# Altium footprint library Motor_Driver_Model_D203.PcbLib: 30 footprints (part 1 of 2)
Each footprint in its own frame and in the unit in brackets; x right, y up, seen from the top. Pads: shape width x height; smd on the part's side, far side on the other; paste and mask are expansions set on the pad; w line width, h text height; cw(c..) or ccw(c..) is an arc to the next point about the centre after c.
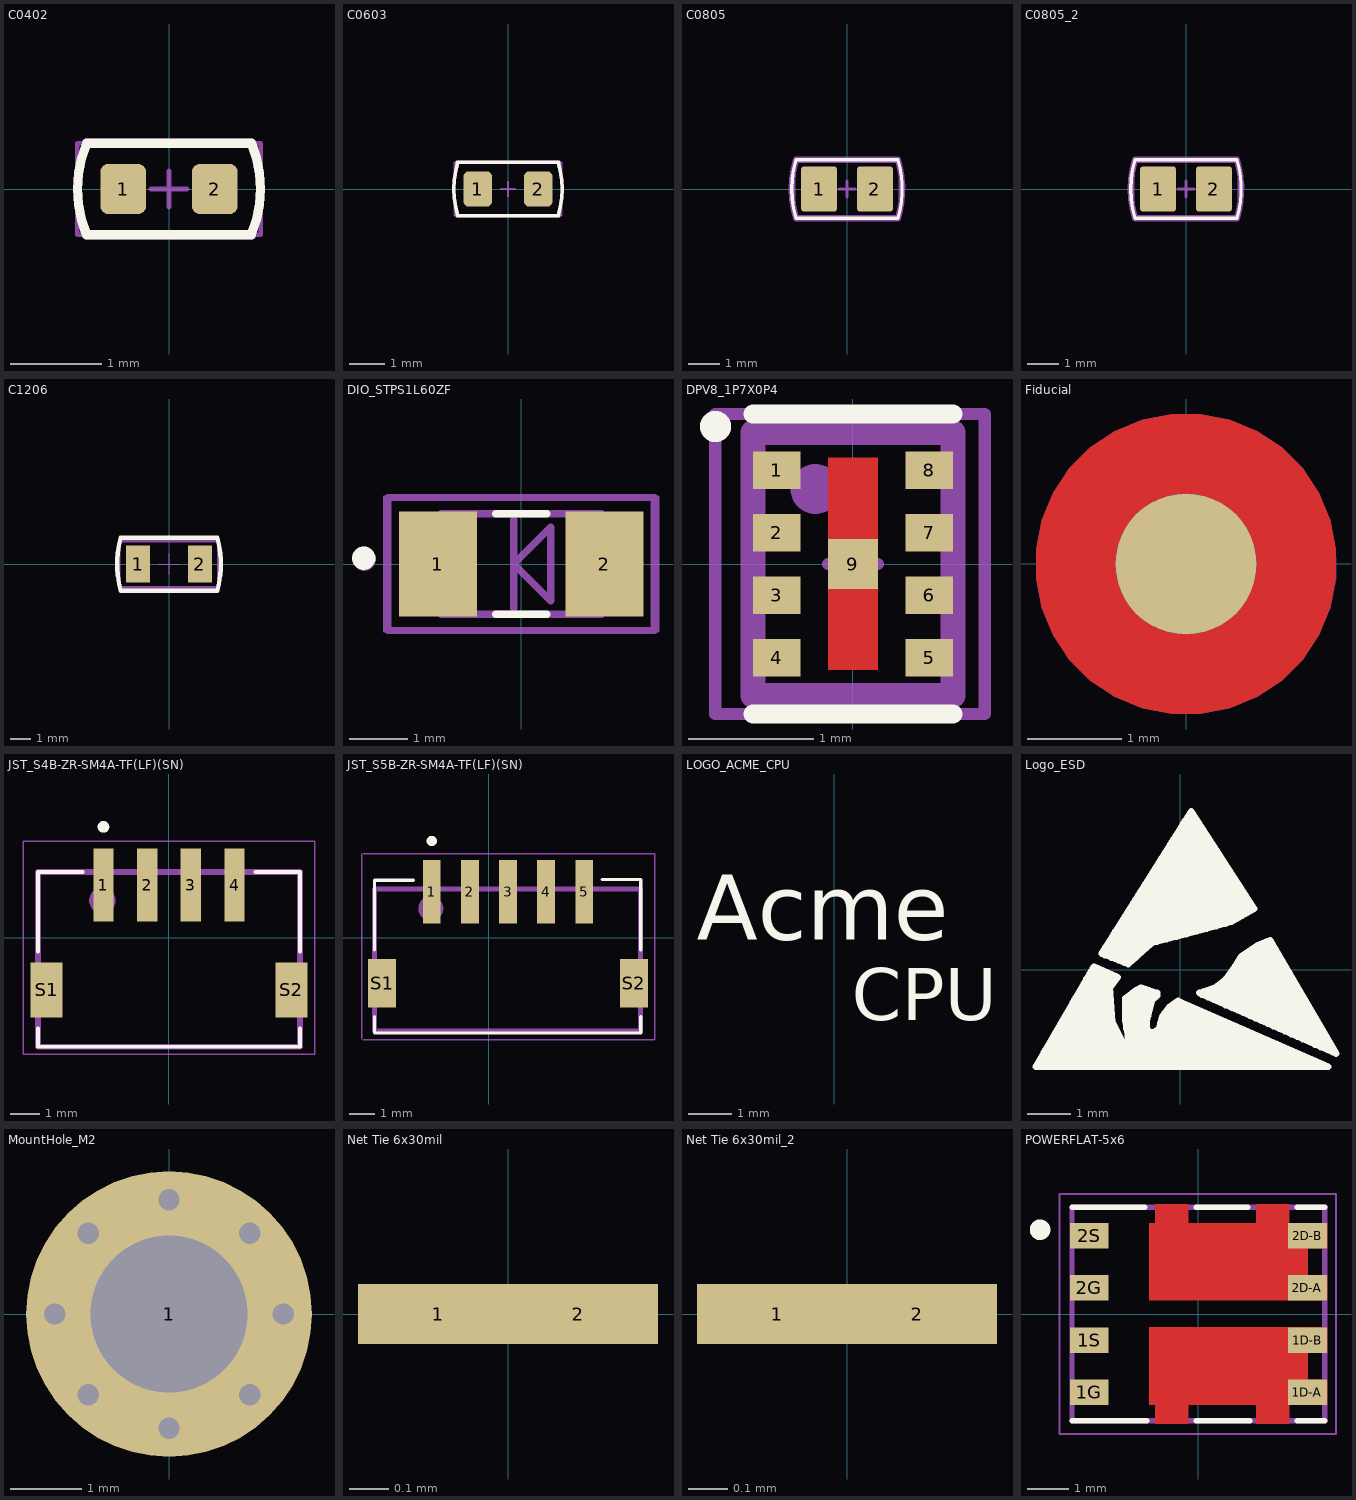
[diagram p0: the footprints below, top view; thin cyan lines are the x and y axes]

## C0402 [mm]
pads (2):
  rrect35% 0.5x0.55 smd: 1(-0.5,0) 2(0.5,0)
Top Overlay:
  lines w0.1: -0.901,-0.501 cw(c0.319,-0.004) -0.898,0.5 ; -0.9,-0.5 0.9,-0.5 ; -0.9,0.5 0.9,0.5 ; 0.898,-0.5 ccw(c-0.319,0.004) 0.901,0.501
Top ASSY:
  lines w0.1: -0.901,-0.501 cw(c0.319,-0.004) -0.898,0.5 ; -0.9,-0.5 0.9,-0.5 ; -0.9,0.5 0.9,0.5 ; 0.898,-0.5 ccw(c-0.319,0.004) 0.901,0.501
  text ".Designator" at -4.132,-0.067 h0.8
Mechanical 15:
  lines w0.05: -1,-0.5 -1,0.5 1,0.5 1,-0.5 -1,-0.5
  lines w0.051: -0.2,0 0.2,0 ; 0,-0.2 0,0.2
3D body "C0402C104Z4VACTU.step": height 0.55, standoff 0, extent -0.525,-0.275 0.525,0.275

## C0603 [mm]
pads (2):
  rrect35% 0.8x0.991 smd: 1(-0.85,0) 2(0.85,0)
Top Overlay:
  lines w0.1: -1.416,-0.75 cw(c1.346,0) -1.416,0.75 1.416,0.75 cw(c-1.346,0) 1.416,-0.75 -1.416,-0.75
Top ASSY:
  lines w0.1: -1.416,-0.75 cw(c1.346,0) -1.416,0.75 1.416,0.75 cw(c-1.346,0) 1.416,-0.75 -1.416,-0.75
  text ".Designator" at 4.142,0.121 h0.8
Mechanical 15:
  lines w0.05: -1.5,-0.75 -1.5,0.75 1.5,0.75 1.5,-0.75 -1.5,-0.75
  lines w0.051: -0.2,0 0.2,0 ; 0,-0.2 0,0.2
3D body "C0603C103M5RACTU.step": height 0.87, standoff 0, extent -0.875,-0.475 0.875,0.475

## C0805 [mm]
pads (2):
  rrect15% 1.15x1.45 smd: 1(-0.9,0) 2(0.9,0)
Top Overlay:
  lines w0.1: -1.64,-0.94 1.638,-0.94 ; -1.64,-0.937 cw(c1.524,0) -1.64,0.938 ; -1.64,0.94 1.64,0.94 ; 1.638,-0.945 ccw(c-1.524,0) 1.64,0.938
Top ASSY:
  lines w0.2: -1.64,-0.94 1.638,-0.94 ; -1.64,-0.937 cw(c1.524,0) -1.64,0.938 ; -1.64,0.94 1.64,0.94 ; 1.638,-0.945 ccw(c-1.524,0) 1.64,0.938
  text ".Designator" at -4.094,-0.121 h0.8
Mechanical 15:
  lines w0.1: -0.25,0 0.25,0 ; 0,-0.25 0,0.25 ; -1.7,-0.889 1.7,-0.889 1.7,0.889 -1.7,0.889 -1.7,-0.889
3D body "C0805C101JAGACTU.step": height 0.88, standoff 0, extent -1.1,-0.725 1.1,0.725

## C0805_2 [mm]
pads (2):
  rrect15% 1.15x1.45 smd: 1(-0.9,0) 2(0.9,0)
Top Overlay:
  lines w0.1: -1.64,-0.94 1.638,-0.94 ; -1.64,-0.937 cw(c1.524,0) -1.64,0.938 ; -1.64,0.94 1.64,0.94 ; 1.638,-0.945 ccw(c-1.524,0) 1.64,0.938
Top ASSY:
  lines w0.2: -1.64,-0.94 1.638,-0.94 ; -1.64,-0.937 cw(c1.524,0) -1.64,0.938 ; -1.64,0.94 1.64,0.94 ; 1.638,-0.945 ccw(c-1.524,0) 1.64,0.938
  text ".Designator" at -3.761,-0.121 h0.8
Mechanical 15:
  lines w0.1: -0.25,0 0.25,0 ; 0,-0.25 0,0.25 ; -1.7,-0.889 1.7,-0.889 1.7,0.889 -1.7,0.889 -1.7,-0.889
3D body "C0805C101JAGACTU.step": height 0.88, standoff 0, extent -1.1,-0.725 1.1,0.725

## C1206 [mm]
pads (2):
  rect 1.15x1.8 smd: 1(-1.5,0) 2(1.5,0)
Top Overlay:
  lines w0.2: -2.345,1.262 ccw(c2.375,0) -2.338,-1.285 ; -2.345,1.27 2.345,1.27 ; -2.338,-1.295 2.338,-1.295 ; 2.338,-1.285 ccw(c-2.375,0) 2.345,1.262
Top ASSY:
  lines w0.2: -2.375,-1.168 2.375,-1.168 ; -2.369,-1.167 cw(c2.375,0) -2.375,1.143 2.375,1.143 cw(c-2.375,0) 2.369,-1.167
  text ".Designator" at -4.332,-0.067 h0.8
Mechanical 15:
  lines w0.05: -0.5,0 0.5,0 ; 0,-0.5 0,0.5 ; -2.35,-1.15 -2.35,1.15 2.35,1.15 2.35,-1.15 -2.35,-1.15
3D body "C1206C102KGRACAUTO.step": height 1.75, standoff 0, extent -1.7,-0.889 1.7,0.911

## DIO_STPS1L60ZF [mm]
pads (2):
  rect 1.34x1.8 smd: 1(-1.43,0) 2(1.43,0)
Top Overlay:
  circle w0.2: c-2.7,0.1 r0.1
  lines w0.127: -0.44,-0.863 0.44,-0.863 ; -0.44,0.863 0.44,0.863
3D:
  circle w0.2: c-2.7,0.1 r0.1
  lines w0.127: -1.375,-0.863 1.375,-0.863 1.375,0.863 -1.375,0.863 -1.375,-0.863
Top ASSY:
  circle w0.2: c-2.694,0.083 r0.1
  lines w0.125: -0.127,-0.762 -0.127,0.762 ; -2.286,-1.143 2.286,-1.143 2.286,1.143 -2.286,1.143 -2.286,-1.143 ; -0.127,0 0.508,0.635 0.508,-0.635 -0.127,0
  text ".Designator" at -4.251,-0.384 h0.8
Mechanical 15:
  lines w0.05: -2.35,-1.15 -2.35,1.15 2.35,1.15 2.35,-1.15 -2.35,-1.15
3D body "BZT52H-B30,115.STEP": height 1.2, standoff 0, extent -1.75,-0.8 1.75,0.8

## DPV8_1P7X0P4 [mm]
pads (9):
  rect 0.38x0.3 smd paste+0 mask+0.05: 1(-0.61,0.75) 2(-0.61,0.25) 3(-0.61,-0.25) 4(-0.61,-0.75) 5(0.61,-0.75) 6(0.61,-0.25) 7(0.61,0.25) 8(0.61,0.75)
  rect 0.4x0.4 smd paste-0.837 mask+0.05: 9(0,0)
Top Layer:
  rectangle: -0.2,-0.85 0.2,0.85
Top Overlay:
  circle w0.15: c-1.1,1.1 r0.05
  lines w0.152: -0.8,-1.2 0.8,-1.2 ; -0.8,1.2 0.8,1.2
Top Paste:
  region: 0.2,0.85 -0.2,0.85 -0.2,-0.85 0.2,-0.85
Top Solder:
  rectangle: -0.25,-0.9 0.25,0.9
Top ASSY:
  circle w0.2: c-0.3,0.6 r0.1
  lines w0.2: -0.8,-1.05 0.8,-1.05 0.8,1.05 -0.8,1.05 -0.8,-1.05
  text "'.Designator'" at 0.441,-4.627 h0.8
Mechanical 15:
  lines w0.1: -0.2,0 0.2,0 ; 0,-0.2 0,0.2 ; -1.1,-1.2 -1.1,1.2 1.054,1.2 1.054,-1.2 -1.1,-1.2
3D body "DPV8_1P7X0P4.step": height 0.65, standoff 0, extent -0.8,-1.05 0.8,1.05

## Fiducial [mm]
pads (2):
  round 1.5 smd paste+0 mask+0.75: ""(0,0)
  round 1.5 smd far side paste+0 mask+0.75: ""(0,0)
Top Layer:
  pour cut-out: 0,1.6 0.158,1.6 0.467,1.538 0.758,1.418 1.02,1.243 1.243,1.02 1.418,0.758 1.538,0.467 1.6,0.158 1.6,0 1.6,-0.158 1.538,-0.467 1.418,-0.758 1.243,-1.02 1.02,-1.243 0.758,-1.418 0.467,-1.539 0.158,-1.6 0,-1.6 -0.158,-1.6 -0.467,-1.538 -0.758,-1.418 -1.02,-1.243 -1.243,-1.02 -1.418,-0.758 -1.538,-0.467 -1.6,-0.158 -1.6,0 -1.6,0.158 -1.538,0.467 -1.418,0.758 -1.243,1.02 -1.02,1.243 -0.758,1.418 -0.467,1.538 -0.158,1.6
Bottom Layer:
  pour cut-out: 0,1.6 0.158,1.6 0.467,1.538 0.758,1.418 1.02,1.243 1.243,1.02 1.418,0.758 1.538,0.467 1.6,0.158 1.6,0 1.6,-0.158 1.538,-0.467 1.418,-0.758 1.243,-1.02 1.02,-1.243 0.758,-1.418 0.467,-1.539 0.158,-1.6 0,-1.6 -0.158,-1.6 -0.467,-1.538 -0.758,-1.418 -1.02,-1.243 -1.243,-1.02 -1.418,-0.758 -1.538,-0.467 -1.6,-0.158 -1.6,0 -1.6,0.158 -1.538,0.467 -1.418,0.758 -1.243,1.02 -1.02,1.243 -0.758,1.418 -0.467,1.538 -0.158,1.6
Mechanical 9:
  lines w0.2: -0.635,0 0.635,0 ; 0,-0.635 0,0.635
3D body: height -0.19, standoff -0.2, extent -1.488,-1.497 1.5,1.497

## JST_S4B-ZR-SM4A-TF(LF)(SN) [mm]
pads (6):
  rect 0.7x2.5 smd: 1(-2.25,1.8) 2(-0.75,1.8) 3(0.75,1.8) 4(2.25,1.8)
  rect 1.1x1.9 smd: S1(-4.2,-1.8) S2(4.2,-1.8)
Top Overlay:
  circle w0.2: c-2.25,3.8 r0.1
  lines w0.127: -4.5,-3.11 -4.5,-3.75 4.5,-3.75 4.5,-3.11 ; -4.5,-0.49 -4.5,2.25 -2.97,2.25 ; 2.97,2.25 4.5,2.25 4.5,-0.49
Top ASSY:
  circle w0.4: c-2.286,1.27 r0.254
  lines w0.2: -4.5,-3.75 -4.5,2.25 4.5,2.25 4.5,-3.75 -4.5,-3.75
  text ".Designator" at -3.713,-1.899 h0.8
  text "1" at -2.54,-0.381 h1
  text "2" at -1.017,-0.381 h1
  text "3" at 0.508,-0.37 h1
  text "4" at 1.905,-0.381 h1
Mechanical 15:
  lines w0.05: -5,-4 5,-4 5,3.3 -5,3.3 -5,-4
3D body "S4B-ZR-SM4A-TF.STEP": height 3.7, standoff 0, extent -4.445,-3.631 4.555,2.869

## JST_S5B-ZR-SM4A-TF(LF)(SN) [mm]
pads (7):
  rect 0.7x2.5 smd: 1(-2.25,1.8) 2(-0.75,1.8) 3(0.75,1.8) 4(2.25,1.8) 5(3.75,1.8)
  rect 1.1x1.9 smd: S1(-4.2,-1.8) S2(5.7,-1.8)
Top Overlay:
  circle w0.2: c-2.25,3.8 r0.1
  lines w0.127: -4.5,-3.11 -4.5,-3.75 5.969,-3.75 5.969,-3.11 ; -4.5,-0.49 -4.5,2.25 -2.97,2.25 ; 4.445,2.286 5.975,2.286 ; 5.969,-0.49 5.969,2.25
3D:
  circle w0.2: c-2.25,3.8 r0.1
Top ASSY:
  circle w0.4: c-2.286,1.143 r0.29
  lines w0.2: -4.5,-3.683 -4.5,1.905 5.969,1.905 5.969,-3.683 -4.5,-3.683
  text "1" at -2.522,-0.38 h1
  text "2" at -0.999,-0.38 h1
  text "3" at 0.526,-0.369 h1
  text "4" at 1.923,-0.38 h1
  text "5" at 3.447,-0.369 h1
  text ".Designator" at -1.755,-1.842 h0.5
Mechanical 15:
  lines w0.05: -5,-4 -5,3.3 ; -4.95,-4.013 6.527,-4.013 6.527,-2.807 6.527,0.747 ; -4.95,3.287 6.527,3.287 6.527,0.747 ; 6.527,-0.854 6.527,0.747
3D body "S5B-ZR-SM4A-TF.STEP": height 3.7, standoff 0, extent -4.488,-3.714 6.012,2.786

## LOGO_ACME_CPU [mm]
Top Overlay:
  text "Acme" at -3.149,16.2 h1.5
  text "CPU" at 0.401,14.35 h1.2

## Logo_ESD [mm]
Top Overlay:
  drawing of 211 lines, arcs and shapes, not listed

## MountHole_M2 [mm] "Mount Hole M2"
height 0.025
pads (1):
  round 4 hole 2.2 paste-2 mask-2: 1(0,0)
via -1.131,1.131 diameter 0.605 hole 0.3
via 1.131,1.131 diameter 0.605 hole 0.3
via 1.131,-1.131 diameter 0.605 hole 0.3
via -1.131,-1.131 diameter 0.605 hole 0.3
via -1.6,0 diameter 0.605 hole 0.3
via 0,-1.6 diameter 0.605 hole 0.3
via 1.6,0 diameter 0.605 hole 0.3
via 0,1.6 diameter 0.605 hole 0.3
Top Solder:
  region: 0,2.1 0.207,2.1 0.613,2.019 0.995,1.861 1.339,1.631 1.631,1.339 1.861,0.995 2.019,0.613 2.1,0.207 2.1,0 2.1,-0.207 2.019,-0.613 1.861,-0.995 1.631,-1.339 1.339,-1.631 0.995,-1.861 0.613,-2.019 0.207,-2.1 0,-2.1 -0.207,-2.1 -0.612,-2.019 -0.995,-1.861 -1.339,-1.631 -1.631,-1.339 -1.861,-0.995 -2.019,-0.613 -2.1,-0.207 -2.1,0 -2.1,0.207 -2.019,0.613 -1.861,0.995 -1.631,1.339 -1.339,1.631 -0.995,1.861 -0.613,2.019 -0.207,2.1
Bottom Solder:
  region: 0,2.1 0.207,2.1 0.613,2.019 0.995,1.861 1.339,1.631 1.631,1.339 1.861,0.995 2.019,0.613 2.1,0.207 2.1,0 2.1,-0.207 2.019,-0.613 1.861,-0.995 1.631,-1.339 1.339,-1.631 0.995,-1.861 0.613,-2.019 0.207,-2.1 0,-2.1 -0.207,-2.1 -0.612,-2.019 -0.995,-1.861 -1.339,-1.631 -1.631,-1.339 -1.861,-0.995 -2.019,-0.613 -2.1,-0.207 -2.1,0 -2.1,0.207 -2.019,0.613 -1.861,0.995 -1.631,1.339 -1.339,1.631 -0.995,1.861 -0.613,2.019 -0.207,2.1
Mechanical 15:
  lines w0.1: -1,0 1,0 ; 0,-1 0,1

## Net Tie 6x30mil [mil]
pads (2):
  rect 16x6 smd paste-5 mask-5: 1(-7,0) 2(7,0)
Mechanical 15:
  lines w2: -5,0 5,0 ; 0,-1 0,1

## Net Tie 6x30mil_2 [mil]
pads (2):
  rect 16x6 smd paste-5 mask-5: 1(-7,0) 2(7,0)
Mechanical 15:
  lines w2: -5,0 5,0 ; 0,-1 0,1

## POWERFLAT-5x6 [mm]
pads (8):
  rect 0.94x0.62 smd: 1D-A(2.655,-1.905) 1D-B(2.655,-0.635) 1G(-2.655,-1.905) 1S(-2.655,-0.635) 2D-A(2.655,0.635) 2D-B(2.655,1.905) 2G(-2.655,0.635) 2S(-2.655,1.905)
Top Layer:
  region: 2.207,2.205 3.132,2.205 3.132,1.6 2.667,1.6 2.667,0.94 3.132,0.94 3.132,0.33 -0.243,0.33 -1.193,0.33 -1.193,2.205 -1.043,2.205 -1.043,2.675 -0.243,2.675 -0.243,2.205 1.407,2.205 1.407,2.675 2.207,2.675
  region: 2.207,-2.202 3.132,-2.202 3.132,-1.597 2.667,-1.597 2.667,-0.937 3.132,-0.937 3.132,-0.327 -0.243,-0.327 -1.193,-0.327 -1.193,-2.202 -1.043,-2.202 -1.043,-2.672 -0.243,-2.672 -0.243,-2.202 1.407,-2.202 1.407,-2.672 2.207,-2.672
Top Overlay:
  circle w0.3: c-3.85,2.05 r0.1
  lines w0.127: -3.075,-2.6 -1.25,-2.6 ; -3.075,2.6 -1.3,2.6 ; -0.05,-2.6 1.25,-2.6 ; -0.05,2.6 1.2,2.6 ; 2.4,-2.6 3.075,-2.6 ; 2.4,2.6 3.075,2.6
Top Paste:
  region: 2.059,-0.635 2.059,-2.02 -1.043,-2.02 -1.043,-0.635
  region: 2.059,2.032 2.059,0.647 -1.043,0.647 -1.043,2.032
Top Solder:
  region: 2.75,0.223 -1.302,0.223 -1.302,2.3 2.75,2.3
  region: -0.2,2.253 -1.101,2.253 -1.101,2.75 -0.2,2.75
  region: 2.25,2.251 1.35,2.251 1.35,2.75 2.25,2.75
  region: -0.2,-2.752 -1.101,-2.752 -1.101,-2.25 -0.2,-2.25
  region: 2.25,-2.752 1.351,-2.752 1.351,-2.25 2.25,-2.25
  region: 2.711,-2.296 -1.34,-2.296 -1.34,-0.219 2.711,-0.219
Top ASSY:
  circle w0.3: c-2.55,1.95 r0.1
  lines w0.127: -3.075,-2.6 -3.075,2.6 3.075,2.6 3.075,-2.6 -3.075,-2.6
  text ".Designator" at -3.872,-0.267 h0.8
Mechanical 15:
  lines w0.05: -3.375,-2.925 3.35,-2.925 3.35,2.925 -3.375,2.925 -3.375,-2.925
3D body "STL36DN6F7.STEP": height 1, standoff 0, extent -3.075,-2.6 3.075,2.6